# Altium schematic symbol library UniversalFullBridge.SchLib: 8 symbols
Pins are listed as number, name and electrical type; pins without a type are passive.

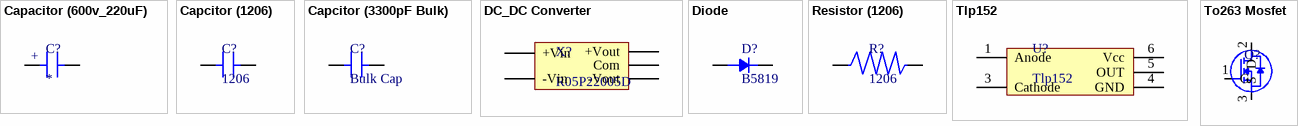
[diagram p0: symbols Capacitor (600v_220uF) to To263 Mosfet]

## Capacitor (600v_220uF)
designator C?
pins: 1, 2
text: +

## Capcitor (1206)
designator C?, comment 1206
pins: 1, 2

## Capcitor (3300pF Bulk)
designator C?, comment Bulk Cap
pins: 1, 2

## DC_DC Converter
designator X?, comment R05P22005D
pins: 1 +Vin, 2 -Vin, 5 -Vout, 6 Com, 7 +Vout

## Diode
designator D?, comment B5819
pins: 1 Anode, 2 Cathode

## Resistor (1206)
designator R?, comment 1206
pins: 1, 2

## Tlp152
designator U?
pins: 1 Anode, 3 Cathode, 4 GND, 5 OUT, 6 Vcc

## To263 Mosfet
designator Q?  (value not drawn)
pins: 1 G, 2 D, 3 S